# EAGLE library part FTDI232-BO (library pinconn)
Pin connectors
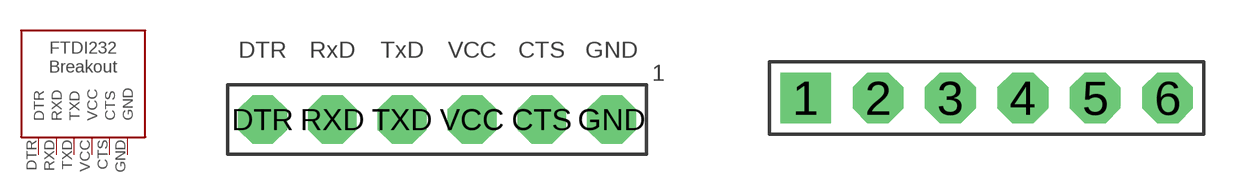
[diagram p0: symbol with the pads of FTDI232-BO; footprints FTDI232-BO, CONN-6P]

Designator prefix -

## FTDI232-BO  [FTDI232-BO]
CTS  CTS
DTR  DTR
GND  GND
RXD  RXD
TXD  TXD
VCC  VCC

## FTDI232-BO-6P  [CONN-6P]
1  GND
2  CTS
3  VCC
4  TXD
5  RXD
6  DTR

## Footprint FTDI232-BO (pad centres in mm)
drill 0.9 pad 1.778 octagon: CTS 3.81,0; DTR -6.35,0; GND 6.35,0; RXD -3.81,0; TXD -1.27,0; VCC 1.27,0

## Footprint CONN-6P (pad centres in mm)
drill 0.9 pad 1.778 square: 1 0,0
drill 0.9 pad 1.778 octagon: 2 2.54,0; 3 5.08,0; 4 7.62,0; 5 10.16,0; 6 12.7,0